# Altium schematic symbol library SparkFun-Resistors.SCHLIB: 220 symbols (part 2 of 3)
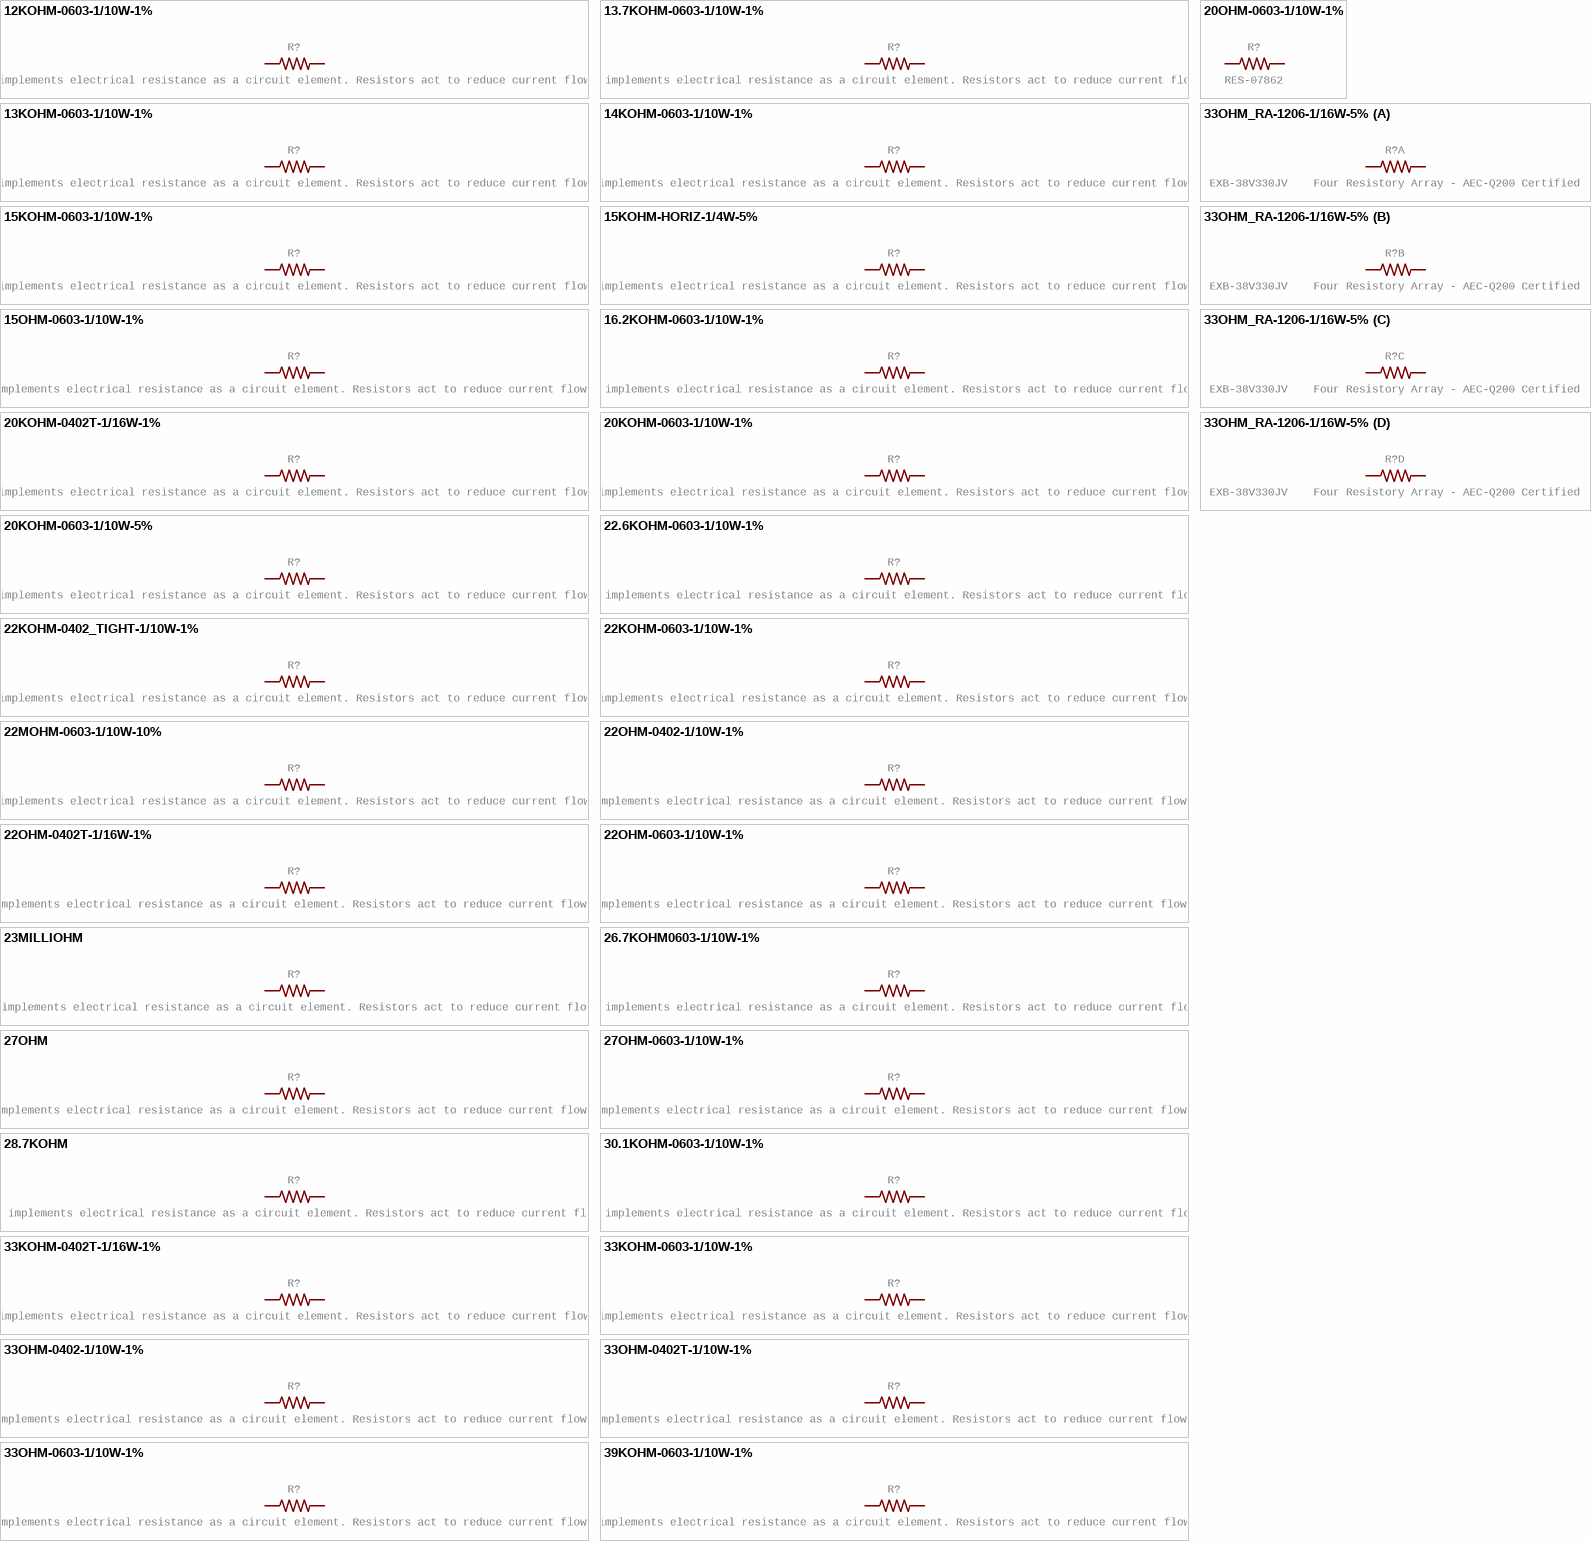
[diagram p8: symbols 12KOHM-0603-1/10W-1% to 39KOHM-0603-1/10W-1%]

## 20KOHM-0603-1/10W-1%
designator R?, comment 20kÎ© resistor    A resistor is a passive two-terminal electrical component that implements electrical resistance as a circuit element. Resistors act to reduce current flow, and, at the same time, act to lower voltage levels within circuits. - Wikipedia
GateName_1: G$1; DeviceName: -0603-1/10W-1%; DeviceSetName: 20KOHM; PROD_ID: RES-09383; SymbolName_1: RESISTOR; LibraryName: SparkFun-Resistors; Package: 0603
footprint 0603
pins: 1, 2

## 20KOHM-0603-1/10W-5%
designator R?, comment 20kÎ© resistor    A resistor is a passive two-terminal electrical component that implements electrical resistance as a circuit element. Resistors act to reduce current flow, and, at the same time, act to lower voltage levels within circuits. - Wikipedia
GateName_1: G$1; DeviceName: -0603-1/10W-5%; DeviceSetName: 20KOHM; PROD_ID: RES-09231; SymbolName_1: RESISTOR; LibraryName: SparkFun-Resistors; Package: 0603
footprint 0603
pins: 1, 2

## 20OHM-0603-1/10W-1%
designator R?, comment RES-07862
GateName_1: G$1; SymbolName_1: RESISTOR; DeviceName: -0603-1/10W-1%; DeviceSetName: 20OHM; LibraryName: SparkFun-Resistors; Package: 0603; PROD_ID: RES-07862
footprint 0603
pins: 1, 2

## 22.6KOHM-0603-1/10W-1%
designator R?, comment 22.6kÎ© resistor    A resistor is a passive two-terminal electrical component that implements electrical resistance as a circuit element. Resistors act to reduce current flow, and, at the same time, act to lower voltage levels within circuits. - Wikipedia
GateName_1: G$1; DeviceName: -0603-1/10W-1%; DeviceSetName: 22.6KOHM; PROD_ID: RES-09384; SymbolName_1: RESISTOR; LibraryName: SparkFun-Resistors; Package: 0603
footprint 0603
pins: 1, 2

## 22KOHM-0402_TIGHT-1/10W-1%
designator R?, comment 22kÎ© resistor    A resistor is a passive two-terminal electrical component that implements electrical resistance as a circuit element. Resistors act to reduce current flow, and, at the same time, act to lower voltage levels within circuits. - Wikipedia
GateName_1: G$1; DeviceName: -0402_TIGHT-1/10W-1%; DeviceSetName: 22KOHM; PROD_ID: RES-14281; SymbolName_1: RESISTOR; LibraryName: SparkFun-Resistors; Package: 0402-TIGHT
footprint 0402-TIGHT
pins: 1, 2

## 22KOHM-0603-1/10W-1%
designator R?, comment 22kÎ© resistor    A resistor is a passive two-terminal electrical component that implements electrical resistance as a circuit element. Resistors act to reduce current flow, and, at the same time, act to lower voltage levels within circuits. - Wikipedia
GateName_1: G$1; DeviceName: -0603-1/10W-1%; DeviceSetName: 22KOHM; PROD_ID: RES-07853; SymbolName_1: RESISTOR; LibraryName: SparkFun-Resistors; Package: 0603
footprint 0603
pins: 1, 2

## 22MOHM-0603-1/10W-10%
designator R?, comment 22MÎ© resistor    A resistor is a passive two-terminal electrical component that implements electrical resistance as a circuit element. Resistors act to reduce current flow, and, at the same time, act to lower voltage levels within circuits. - Wikipedia
GateName_1: G$1; DeviceName: -0603-1/10W-10%; DeviceSetName: 22MOHM; PROD_ID: RES-11132; SymbolName_1: RESISTOR; LibraryName: SparkFun-Resistors; Package: 0603
footprint 0603
pins: 1, 2

## 22OHM-0402-1/10W-1%
designator R?, comment 22Î© resistor    A resistor is a passive two-terminal electrical component that implements electrical resistance as a circuit element. Resistors act to reduce current flow, and, at the same time, act to lower voltage levels within circuits. - Wikipedia
GateName_1: G$1; DeviceName: -0402-1/10W-1%; DeviceSetName: 22OHM; PROD_ID: RES-12427; SymbolName_1: RESISTOR; LibraryName: SparkFun-Resistors; Package: 0402
footprint 0402
pins: 1, 2

## 22OHM-0402T-1/16W-1%
designator R?, comment 22Î© resistor    A resistor is a passive two-terminal electrical component that implements electrical resistance as a circuit element. Resistors act to reduce current flow, and, at the same time, act to lower voltage levels within circuits. - Wikipedia
GateName_1: G$1; DeviceName: -0402T-1/16W-1%; DeviceSetName: 22OHM; PROD_ID: RES-12427; SymbolName_1: RESISTOR; LibraryName: SparkFun-Resistors; Package: 0402-TIGHT
footprint 0402-TIGHT
pins: 1, 2

## 22OHM-0603-1/10W-1%
designator R?, comment 22Î© resistor    A resistor is a passive two-terminal electrical component that implements electrical resistance as a circuit element. Resistors act to reduce current flow, and, at the same time, act to lower voltage levels within circuits. - Wikipedia
GateName_1: G$1; DeviceName: -0603-1/10W-1%; DeviceSetName: 22OHM; PROD_ID: RES-08698; SymbolName_1: RESISTOR; LibraryName: SparkFun-Resistors; Package: 0603
footprint 0603
pins: 1, 2

## 23MILLIOHM
designator R?, comment 23 mÎ© resistor    A resistor is a passive two-terminal electrical component that implements electrical resistance as a circuit element. Resistors act to reduce current flow, and, at the same time, act to lower voltage levels within circuits. - Wikipedia
GateName_1: G$1; DeviceSetName: 23MILLIOHM; PROD_ID: RES-15813; SymbolName_1: RESISTOR; LibraryName: SparkFun-Resistors; Package: 2512
footprint 2512
pins: P$1 1, P$2 2

## 26.7KOHM0603-1/10W-1%
designator R?, comment 26.7kÎ© resistor    A resistor is a passive two-terminal electrical component that implements electrical resistance as a circuit element. Resistors act to reduce current flow, and, at the same time, act to lower voltage levels within circuits. - Wikipedia
GateName_1: G$1; DeviceName: 0603-1/10W-1%; DeviceSetName: 26.7KOHM; PROD_ID: RES-12186; SymbolName_1: RESISTOR; LibraryName: SparkFun-Resistors; Package: 0603
footprint 0603
pins: 1, 2

## 27OHM
designator R?, comment 27Î© resistor    A resistor is a passive two-terminal electrical component that implements electrical resistance as a circuit element. Resistors act to reduce current flow, and, at the same time, act to lower voltage levels within circuits. - Wikipedia
GateName_1: G$1; DeviceSetName: 27OHM; PROD_ID: RES-15238; SymbolName_1: RESISTOR; LibraryName: SparkFun-Resistors; Package: 0402-TIGHT
footprint 0402-TIGHT
pins: 1, 2

## 27OHM-0603-1/10W-1%
designator R?, comment 27Î© resistor    A resistor is a passive two-terminal electrical component that implements electrical resistance as a circuit element. Resistors act to reduce current flow, and, at the same time, act to lower voltage levels within circuits. - Wikipedia
GateName_1: G$1; DeviceName: -0603-1/10W-1%; DeviceSetName: 27OHM; PROD_ID: RES-09334; SymbolName_1: RESISTOR; LibraryName: SparkFun-Resistors; Package: 0603
footprint 0603
pins: 1, 2

## 28.7KOHM
designator R?, comment 28.7 kÎ© resistor    A resistor is a passive two-terminal electrical component that implements electrical resistance as a circuit element. Resistors act to reduce current flow, and, at the same time, act to lower voltage levels within circuits. - Wikipedia
GateName_1: G$1; DeviceSetName: 28.7KOHM; PROD_ID: RES-15817; SymbolName_1: RESISTOR; LibraryName: SparkFun-Resistors; Package: 0603
footprint 0603
pins: 1, 2

## 30.1KOHM-0603-1/10W-1%
designator R?, comment 30.1kÎ© resistor    A resistor is a passive two-terminal electrical component that implements electrical resistance as a circuit element. Resistors act to reduce current flow, and, at the same time, act to lower voltage levels within circuits. - Wikipedia
GateName_1: G$1; DeviceName: -0603-1/10W-1%; DeviceSetName: 30.1KOHM; PROD_ID: RES-14417; SymbolName_1: RESISTOR; LibraryName: SparkFun-Resistors; Package: 0603
footprint 0603
pins: 1, 2

## 33KOHM-0402T-1/16W-1%
designator R?, comment 33kÎ© resistor    A resistor is a passive two-terminal electrical component that implements electrical resistance as a circuit element. Resistors act to reduce current flow, and, at the same time, act to lower voltage levels within circuits. - Wikipedia
GateName_1: G$1; DeviceName: -0402T-1/16W-1%; DeviceSetName: 33KOHM; PROD_ID: RES-15128; SymbolName_1: RESISTOR; LibraryName: SparkFun-Resistors; Package: 0402-TIGHT
footprint 0402-TIGHT
pins: 1, 2

## 33KOHM-0603-1/10W-1%
designator R?, comment 33kÎ© resistor    A resistor is a passive two-terminal electrical component that implements electrical resistance as a circuit element. Resistors act to reduce current flow, and, at the same time, act to lower voltage levels within circuits. - Wikipedia
GateName_1: G$1; DeviceName: -0603-1/10W-1%; DeviceSetName: 33KOHM; PROD_ID: RES-08416; SymbolName_1: RESISTOR; LibraryName: SparkFun-Resistors; Package: 0603
footprint 0603
pins: 1, 2

## 33OHM-0402-1/10W-1%
designator R?, comment 33Î© resistor    A resistor is a passive two-terminal electrical component that implements electrical resistance as a circuit element. Resistors act to reduce current flow, and, at the same time, act to lower voltage levels within circuits. - Wikipedia
GateName_1: G$1; DeviceName: -0402-1/10W-1%; DeviceSetName: 33OHM; PROD_ID: RES-14883; SymbolName_1: RESISTOR; LibraryName: SparkFun-Resistors; Package: 0402
footprint 0402
pins: 1, 2

## 33OHM-0402T-1/10W-1%
designator R?, comment 33Î© resistor    A resistor is a passive two-terminal electrical component that implements electrical resistance as a circuit element. Resistors act to reduce current flow, and, at the same time, act to lower voltage levels within circuits. - Wikipedia
GateName_1: G$1; DeviceName: -0402T-1/10W-1%; DeviceSetName: 33OHM; PROD_ID: RES-14883; SymbolName_1: RESISTOR; LibraryName: SparkFun-Resistors; Package: 0402-TIGHT
footprint 0402-TIGHT
pins: 1, 2

## 33OHM-0603-1/10W-1%
designator R?, comment 33Î© resistor    A resistor is a passive two-terminal electrical component that implements electrical resistance as a circuit element. Resistors act to reduce current flow, and, at the same time, act to lower voltage levels within circuits. - Wikipedia
GateName_1: G$1; DeviceName: -0603-1/10W-1%; DeviceSetName: 33OHM; PROD_ID: RES-08270; SymbolName_1: RESISTOR; LibraryName: SparkFun-Resistors; Package: 0603
footprint 0603
pins: 1, 2

## 33OHM_RA-1206-1/16W-5%
designator R?, comment EXB-38V330JV    Four Resistory Array - AEC-Q200 Certified
GateName_1: A; GateName_2: B; GateName_3: C; GateName_4: D; DeviceName: -1206-1/16W-5%; DeviceSetName: 33OHM_RA; PROD_ID: RES-15081; SymbolName_1: RESISTOR; SymbolName_2: RESISTOR; SymbolName_3: RESISTOR; SymbolName_4: RESISTOR; LibraryName: SparkFun-Resistors; Package: 1206_RA
footprint 1206_RA
part A pins: P1 1, P8 2
part B pins: P2 1, P7 2
part C pins: P3 1, P6 2
part D pins: P4 1, P5 2

## 39KOHM-0603-1/10W-1%
designator R?, comment 39kÎ© resistor    A resistor is a passive two-terminal electrical component that implements electrical resistance as a circuit element. Resistors act to reduce current flow, and, at the same time, act to lower voltage levels within circuits. - Wikipedia
GateName_1: G$1; DeviceName: -0603-1/10W-1%; DeviceSetName: 39KOHM; PROD_ID: RES-12377; SymbolName_1: RESISTOR; LibraryName: SparkFun-Resistors; Package: 0603
footprint 0603
pins: 1, 2

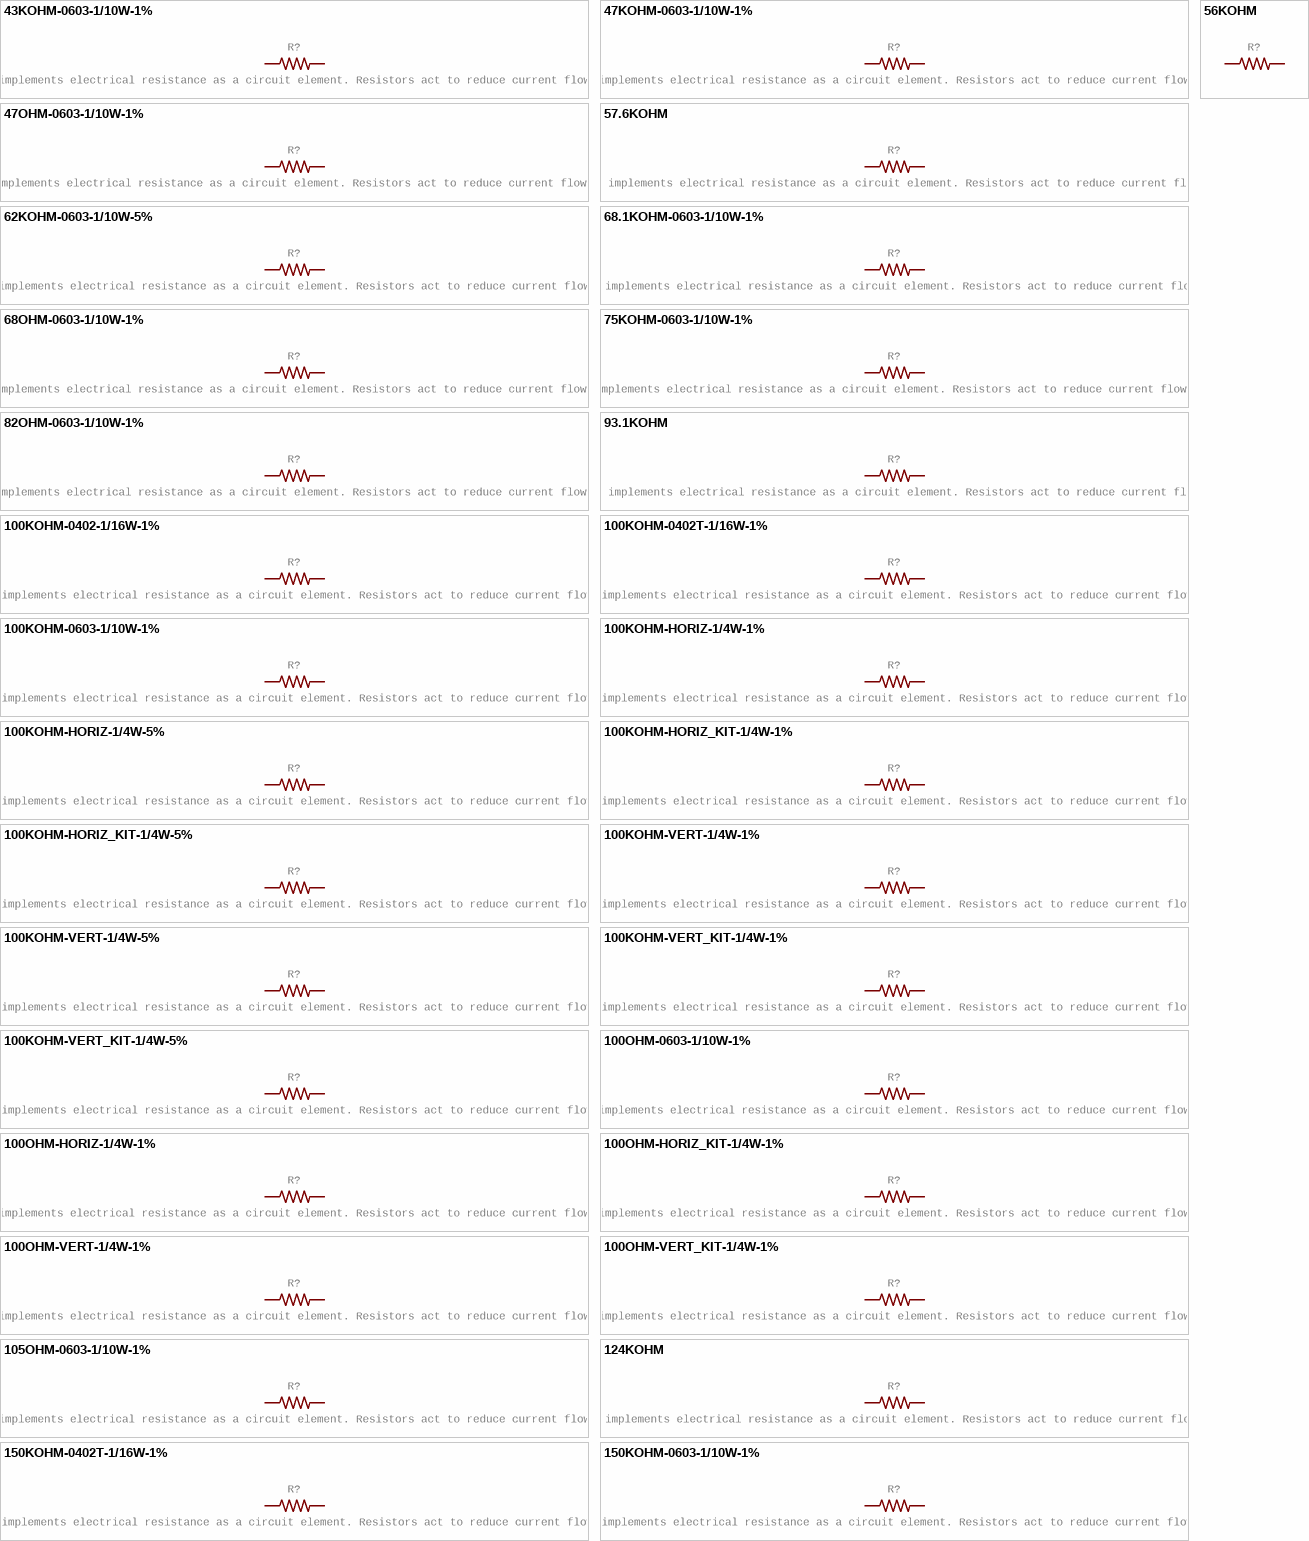
[diagram p4: symbols 43KOHM-0603-1/10W-1% to 150KOHM-0603-1/10W-1%]

## 43KOHM-0603-1/10W-1%
designator R?, comment 43kÎ© resistor    A resistor is a passive two-terminal electrical component that implements electrical resistance as a circuit element. Resistors act to reduce current flow, and, at the same time, act to lower voltage levels within circuits. - Wikipedia
GateName_1: G$1; DeviceName: -0603-1/10W-1%; DeviceSetName: 43KOHM; PROD_ID: RES-07858; SymbolName_1: RESISTOR; LibraryName: SparkFun-Resistors; Package: 0603
footprint 0603
pins: 1, 2

## 47KOHM-0603-1/10W-1%
designator R?, comment 47kÎ© resistor    A resistor is a passive two-terminal electrical component that implements electrical resistance as a circuit element. Resistors act to reduce current flow, and, at the same time, act to lower voltage levels within circuits. - Wikipedia
GateName_1: G$1; DeviceName: -0603-1/10W-1%; DeviceSetName: 47KOHM; PROD_ID: RES-07871; SymbolName_1: RESISTOR; LibraryName: SparkFun-Resistors; Package: 0603
footprint 0603
pins: 1, 2

## 47OHM-0603-1/10W-1%
designator R?, comment 47Î© resistor    A resistor is a passive two-terminal electrical component that implements electrical resistance as a circuit element. Resistors act to reduce current flow, and, at the same time, act to lower voltage levels within circuits. - Wikipedia
GateName_1: R1; DeviceName: -0603-1/10W-1%; DeviceSetName: 47OHM; PROD_ID: RES-14282; SymbolName_1: RESISTOR; LibraryName: SparkFun-Resistors; Package: 0603
footprint 0603
pins: 1, 2

## 56KOHM
designator R?
GateName_1: G$1; SymbolName_1: RESISTOR; DeviceSetName: 56KOHM; LibraryName: SparkFun-Resistors; Package: 0603
footprint 0603
pins: 1, 2

## 57.6KOHM
designator R?, comment 57.6 kÎ© resistor    A resistor is a passive two-terminal electrical component that implements electrical resistance as a circuit element. Resistors act to reduce current flow, and, at the same time, act to lower voltage levels within circuits. - Wikipedia
GateName_1: G$1; DeviceSetName: 57.6KOHM; PROD_ID: RES-15818; SymbolName_1: RESISTOR; LibraryName: SparkFun-Resistors; Package: 0603
footprint 0603
pins: 1, 2

## 62KOHM-0603-1/10W-5%
designator R?, comment 62kÎ© resistor    A resistor is a passive two-terminal electrical component that implements electrical resistance as a circuit element. Resistors act to reduce current flow, and, at the same time, act to lower voltage levels within circuits. - Wikipedia
GateName_1: G$1; DeviceName: -0603-1/10W-5%; DeviceSetName: 62KOHM; PROD_ID: RES-09993; SymbolName_1: RESISTOR; LibraryName: SparkFun-Resistors; Package: 0603
footprint 0603
pins: 1, 2

## 68.1KOHM-0603-1/10W-1%
designator R?, comment 68.1kÎ© resistor    A resistor is a passive two-terminal electrical component that implements electrical resistance as a circuit element. Resistors act to reduce current flow, and, at the same time, act to lower voltage levels within circuits. - Wikipedia
GateName_1: >NAME; DeviceName: -0603-1/10W-1%; DeviceSetName: 68.1KOHM; PROD_ID: RES-09380; SymbolName_1: RESISTOR; LibraryName: SparkFun-Resistors; Package: 0603
footprint 0603
pins: 1, 2

## 68OHM-0603-1/10W-1%
designator R?, comment 68Î© resistor    A resistor is a passive two-terminal electrical component that implements electrical resistance as a circuit element. Resistors act to reduce current flow, and, at the same time, act to lower voltage levels within circuits. - Wikipedia
GateName_1: G$1; DeviceName: -0603-1/10W-1%; DeviceSetName: 68OHM; SymbolName_1: RESISTOR; LibraryName: SparkFun-Resistors; Package: 0603
footprint 0603
pins: 1, 2

## 75KOHM-0603-1/10W-1%
designator R?, comment 75Î© resistor    A resistor is a passive two-terminal electrical component that implements electrical resistance as a circuit element. Resistors act to reduce current flow, and, at the same time, act to lower voltage levels within circuits. - Wikipedia
GateName_1: G$1; DeviceName: -0603-1/10W-1%; DeviceSetName: 75KOHM; PROD_ID: RES-09737; SymbolName_1: RESISTOR; LibraryName: SparkFun-Resistors; Package: 0603
footprint 0603
pins: 1, 2

## 82OHM-0603-1/10W-1%
designator R?, comment 82Î© resistor    A resistor is a passive two-terminal electrical component that implements electrical resistance as a circuit element. Resistors act to reduce current flow, and, at the same time, act to lower voltage levels within circuits. - Wikipedia
GateName_1: G$1; DeviceName: -0603-1/10W-1%; DeviceSetName: 82OHM; PROD_ID: RES-12311; SymbolName_1: RESISTOR; LibraryName: SparkFun-Resistors; Package: 0603
footprint 0603
pins: 1, 2

## 93.1KOHM
designator R?, comment 93.1kÎ© resistor     A resistor is a passive two-terminal electrical component that implements electrical resistance as a circuit element. Resistors act to reduce current flow, and, at the same time, act to lower voltage levels within circuits. - Wikipedia
GateName_1: G$1; DeviceSetName: 93.1KOHM; PROD_ID: RES-14393; SymbolName_1: RESISTOR; LibraryName: SparkFun-Resistors; Package: 0603
footprint 0603
pins: 1, 2

## 100KOHM-0402-1/16W-1%
designator R?, comment 100kÎ© resistor    A resistor is a passive two-terminal electrical component that implements electrical resistance as a circuit element. Resistors act to reduce current flow, and, at the same time, act to lower voltage levels within circuits. - Wikipedia
GateName_1: G$1; DeviceName: -0402-1/16W-1%; DeviceSetName: 100KOHM; PROD_ID: RES-13495; SymbolName_1: RESISTOR; LibraryName: SparkFun-Resistors; Package: 0402
footprint 0402
pins: 1, 2

## 100KOHM-0402T-1/16W-1%
designator R?, comment 100kÎ© resistor    A resistor is a passive two-terminal electrical component that implements electrical resistance as a circuit element. Resistors act to reduce current flow, and, at the same time, act to lower voltage levels within circuits. - Wikipedia
GateName_1: G$1; DeviceName: -0402T-1/16W-1%; DeviceSetName: 100KOHM; PROD_ID: RES-13495; SymbolName_1: RESISTOR; LibraryName: SparkFun-Resistors; Package: 0402-TIGHT
footprint 0402-TIGHT
pins: 1, 2

## 100KOHM-0603-1/10W-1%
designator R?, comment 100kÎ© resistor    A resistor is a passive two-terminal electrical component that implements electrical resistance as a circuit element. Resistors act to reduce current flow, and, at the same time, act to lower voltage levels within circuits. - Wikipedia
GateName_1: G$1; DeviceName: -0603-1/10W-1%; DeviceSetName: 100KOHM; PROD_ID: RES-07828; SymbolName_1: RESISTOR; LibraryName: SparkFun-Resistors; Package: 0603
footprint 0603
pins: 1, 2

## 100KOHM-HORIZ-1/4W-1%
designator R?, comment 100kÎ© resistor    A resistor is a passive two-terminal electrical component that implements electrical resistance as a circuit element. Resistors act to reduce current flow, and, at the same time, act to lower voltage levels within circuits. - Wikipedia
GateName_1: G$1; DeviceName: -HORIZ-1/4W-1%; DeviceSetName: 100KOHM; PROD_ID: RES-12184; SymbolName_1: RESISTOR; LibraryName: SparkFun-Resistors; Package: AXIAL-0.3
footprint AXIAL-0.3
pins: P$1 1, P$2 2

## 100KOHM-HORIZ-1/4W-5%
designator R?, comment 100kÎ© resistor    A resistor is a passive two-terminal electrical component that implements electrical resistance as a circuit element. Resistors act to reduce current flow, and, at the same time, act to lower voltage levels within circuits. - Wikipedia
GateName_1: G$1; DeviceName: -HORIZ-1/4W-5%; DeviceSetName: 100KOHM; PROD_ID: RES-10686; SymbolName_1: RESISTOR; LibraryName: SparkFun-Resistors; Package: AXIAL-0.3
footprint AXIAL-0.3
pins: P$1 1, P$2 2

## 100KOHM-HORIZ_KIT-1/4W-1%
designator R?, comment 100kÎ© resistor    A resistor is a passive two-terminal electrical component that implements electrical resistance as a circuit element. Resistors act to reduce current flow, and, at the same time, act to lower voltage levels within circuits. - Wikipedia
GateName_1: G$1; DeviceName: -HORIZ_KIT-1/4W-1%; DeviceSetName: 100KOHM; PROD_ID: RES-12184; SymbolName_1: RESISTOR; LibraryName: SparkFun-Resistors; Package: AXIAL-0.3-KIT
footprint AXIAL-0.3-KIT
pins: P$1 1, P$2 2

## 100KOHM-HORIZ_KIT-1/4W-5%
designator R?, comment 100kÎ© resistor    A resistor is a passive two-terminal electrical component that implements electrical resistance as a circuit element. Resistors act to reduce current flow, and, at the same time, act to lower voltage levels within circuits. - Wikipedia
GateName_1: G$1; DeviceName: -HORIZ_KIT-1/4W-5%; DeviceSetName: 100KOHM; PROD_ID: RES-10686; SymbolName_1: RESISTOR; LibraryName: SparkFun-Resistors; Package: AXIAL-0.3-KIT
footprint AXIAL-0.3-KIT
pins: P$1 1, P$2 2

## 100KOHM-VERT-1/4W-1%
designator R?, comment 100kÎ© resistor    A resistor is a passive two-terminal electrical component that implements electrical resistance as a circuit element. Resistors act to reduce current flow, and, at the same time, act to lower voltage levels within circuits. - Wikipedia
GateName_1: G$1; DeviceName: -VERT-1/4W-1%; DeviceSetName: 100KOHM; PROD_ID: RES-12184; SymbolName_1: RESISTOR; LibraryName: SparkFun-Resistors; Package: AXIAL-0.1
footprint AXIAL-0.1
pins: P$1 1, P$2 2

## 100KOHM-VERT-1/4W-5%
designator R?, comment 100kÎ© resistor    A resistor is a passive two-terminal electrical component that implements electrical resistance as a circuit element. Resistors act to reduce current flow, and, at the same time, act to lower voltage levels within circuits. - Wikipedia
GateName_1: G$1; DeviceName: -VERT-1/4W-5%; DeviceSetName: 100KOHM; PROD_ID: RES-10686; SymbolName_1: RESISTOR; LibraryName: SparkFun-Resistors; Package: AXIAL-0.1
footprint AXIAL-0.1
pins: P$1 1, P$2 2

## 100KOHM-VERT_KIT-1/4W-1%
designator R?, comment 100kÎ© resistor    A resistor is a passive two-terminal electrical component that implements electrical resistance as a circuit element. Resistors act to reduce current flow, and, at the same time, act to lower voltage levels within circuits. - Wikipedia
GateName_1: G$1; DeviceName: -VERT_KIT-1/4W-1%; DeviceSetName: 100KOHM; PROD_ID: RES-12184; SymbolName_1: RESISTOR; LibraryName: SparkFun-Resistors; Package: AXIAL-0.1-KIT
footprint AXIAL-0.1-KIT
pins: P$1 1, P$2 2

## 100KOHM-VERT_KIT-1/4W-5%
designator R?, comment 100kÎ© resistor    A resistor is a passive two-terminal electrical component that implements electrical resistance as a circuit element. Resistors act to reduce current flow, and, at the same time, act to lower voltage levels within circuits. - Wikipedia
GateName_1: G$1; DeviceName: -VERT_KIT-1/4W-5%; DeviceSetName: 100KOHM; PROD_ID: RES-10686; SymbolName_1: RESISTOR; LibraryName: SparkFun-Resistors; Package: AXIAL-0.1-KIT
footprint AXIAL-0.1-KIT
pins: P$1 1, P$2 2

## 100OHM-0603-1/10W-1%
designator R?, comment 100Î© resistor    A resistor is a passive two-terminal electrical component that implements electrical resistance as a circuit element. Resistors act to reduce current flow, and, at the same time, act to lower voltage levels within circuits. - Wikipedia
GateName_1: G$1; DeviceName: -0603-1/10W-1%; DeviceSetName: 100OHM; PROD_ID: RES-07863; SymbolName_1: RESISTOR; LibraryName: SparkFun-Resistors; Package: 0603
footprint 0603
pins: 1, 2

## 100OHM-HORIZ-1/4W-1%
designator R?, comment 100Î© resistor    A resistor is a passive two-terminal electrical component that implements electrical resistance as a circuit element. Resistors act to reduce current flow, and, at the same time, act to lower voltage levels within circuits. - Wikipedia
GateName_1: G$1; DeviceName: -HORIZ-1/4W-1%; DeviceSetName: 100OHM; PROD_ID: RES-12181; SymbolName_1: RESISTOR; LibraryName: SparkFun-Resistors; Package: AXIAL-0.3
footprint AXIAL-0.3
pins: P$1 1, P$2 2

## 100OHM-HORIZ_KIT-1/4W-1%
designator R?, comment 100Î© resistor    A resistor is a passive two-terminal electrical component that implements electrical resistance as a circuit element. Resistors act to reduce current flow, and, at the same time, act to lower voltage levels within circuits. - Wikipedia
GateName_1: G$1; DeviceName: -HORIZ_KIT-1/4W-1%; DeviceSetName: 100OHM; PROD_ID: RES-12181; SymbolName_1: RESISTOR; LibraryName: SparkFun-Resistors; Package: AXIAL-0.3EZ
footprint AXIAL-0.3EZ
pins: P$1 1, P$2 2

## 100OHM-VERT-1/4W-1%
designator R?, comment 100Î© resistor    A resistor is a passive two-terminal electrical component that implements electrical resistance as a circuit element. Resistors act to reduce current flow, and, at the same time, act to lower voltage levels within circuits. - Wikipedia
GateName_1: G$1; DeviceName: -VERT-1/4W-1%; DeviceSetName: 100OHM; PROD_ID: RES-12181; SymbolName_1: RESISTOR; LibraryName: SparkFun-Resistors; Package: AXIAL-0.1
footprint AXIAL-0.1
pins: P$1 1, P$2 2

## 100OHM-VERT_KIT-1/4W-1%
designator R?, comment 100Î© resistor    A resistor is a passive two-terminal electrical component that implements electrical resistance as a circuit element. Resistors act to reduce current flow, and, at the same time, act to lower voltage levels within circuits. - Wikipedia
GateName_1: G$1; DeviceName: -VERT_KIT-1/4W-1%; DeviceSetName: 100OHM; PROD_ID: RES-12181; SymbolName_1: RESISTOR; LibraryName: SparkFun-Resistors; Package: AXIAL-0.1-KIT
footprint AXIAL-0.1-KIT
pins: P$1 1, P$2 2

## 105OHM-0603-1/10W-1%
designator R?, comment 105Î© resistor    A resistor is a passive two-terminal electrical component that implements electrical resistance as a circuit element. Resistors act to reduce current flow, and, at the same time, act to lower voltage levels within circuits. - Wikipedia
GateName_1: G$1; DeviceName: -0603-1/10W-1%; DeviceSetName: 105OHM; PROD_ID: RES-10751; SymbolName_1: RESISTOR; LibraryName: SparkFun-Resistors; Package: 0603
footprint 0603
pins: 1, 2

## 124KOHM
designator R?, comment 124kÎ© resistor     A resistor is a passive two-terminal electrical component that implements electrical resistance as a circuit element. Resistors act to reduce current flow, and, at the same time, act to lower voltage levels within circuits. - Wikipedia
GateName_1: G$1; DeviceSetName: 124KOHM; PROD_ID: RES-14395; SymbolName_1: RESISTOR; LibraryName: SparkFun-Resistors; Package: 0603
footprint 0603
pins: 1, 2

## 150KOHM-0402T-1/16W-1%
designator R?, comment 150kÎ© resistor    A resistor is a passive two-terminal electrical component that implements electrical resistance as a circuit element. Resistors act to reduce current flow, and, at the same time, act to lower voltage levels within circuits. - Wikipedia
GateName_1: G$1; DeviceName: -0402T-1/16W-1%; DeviceSetName: 150KOHM; PROD_ID: RES-15093; SymbolName_1: RESISTOR; LibraryName: SparkFun-Resistors; Package: 0402-TIGHT
footprint 0402-TIGHT
pins: 1, 2

## 150KOHM-0603-1/10W-1%
designator R?, comment 150kÎ© resistor    A resistor is a passive two-terminal electrical component that implements electrical resistance as a circuit element. Resistors act to reduce current flow, and, at the same time, act to lower voltage levels within circuits. - Wikipedia
GateName_1: G$1; DeviceName: -0603-1/10W-1%; DeviceSetName: 150KOHM; PROD_ID: RES-09117; SymbolName_1: RESISTOR; LibraryName: SparkFun-Resistors; Package: 0603
footprint 0603
pins: 1, 2

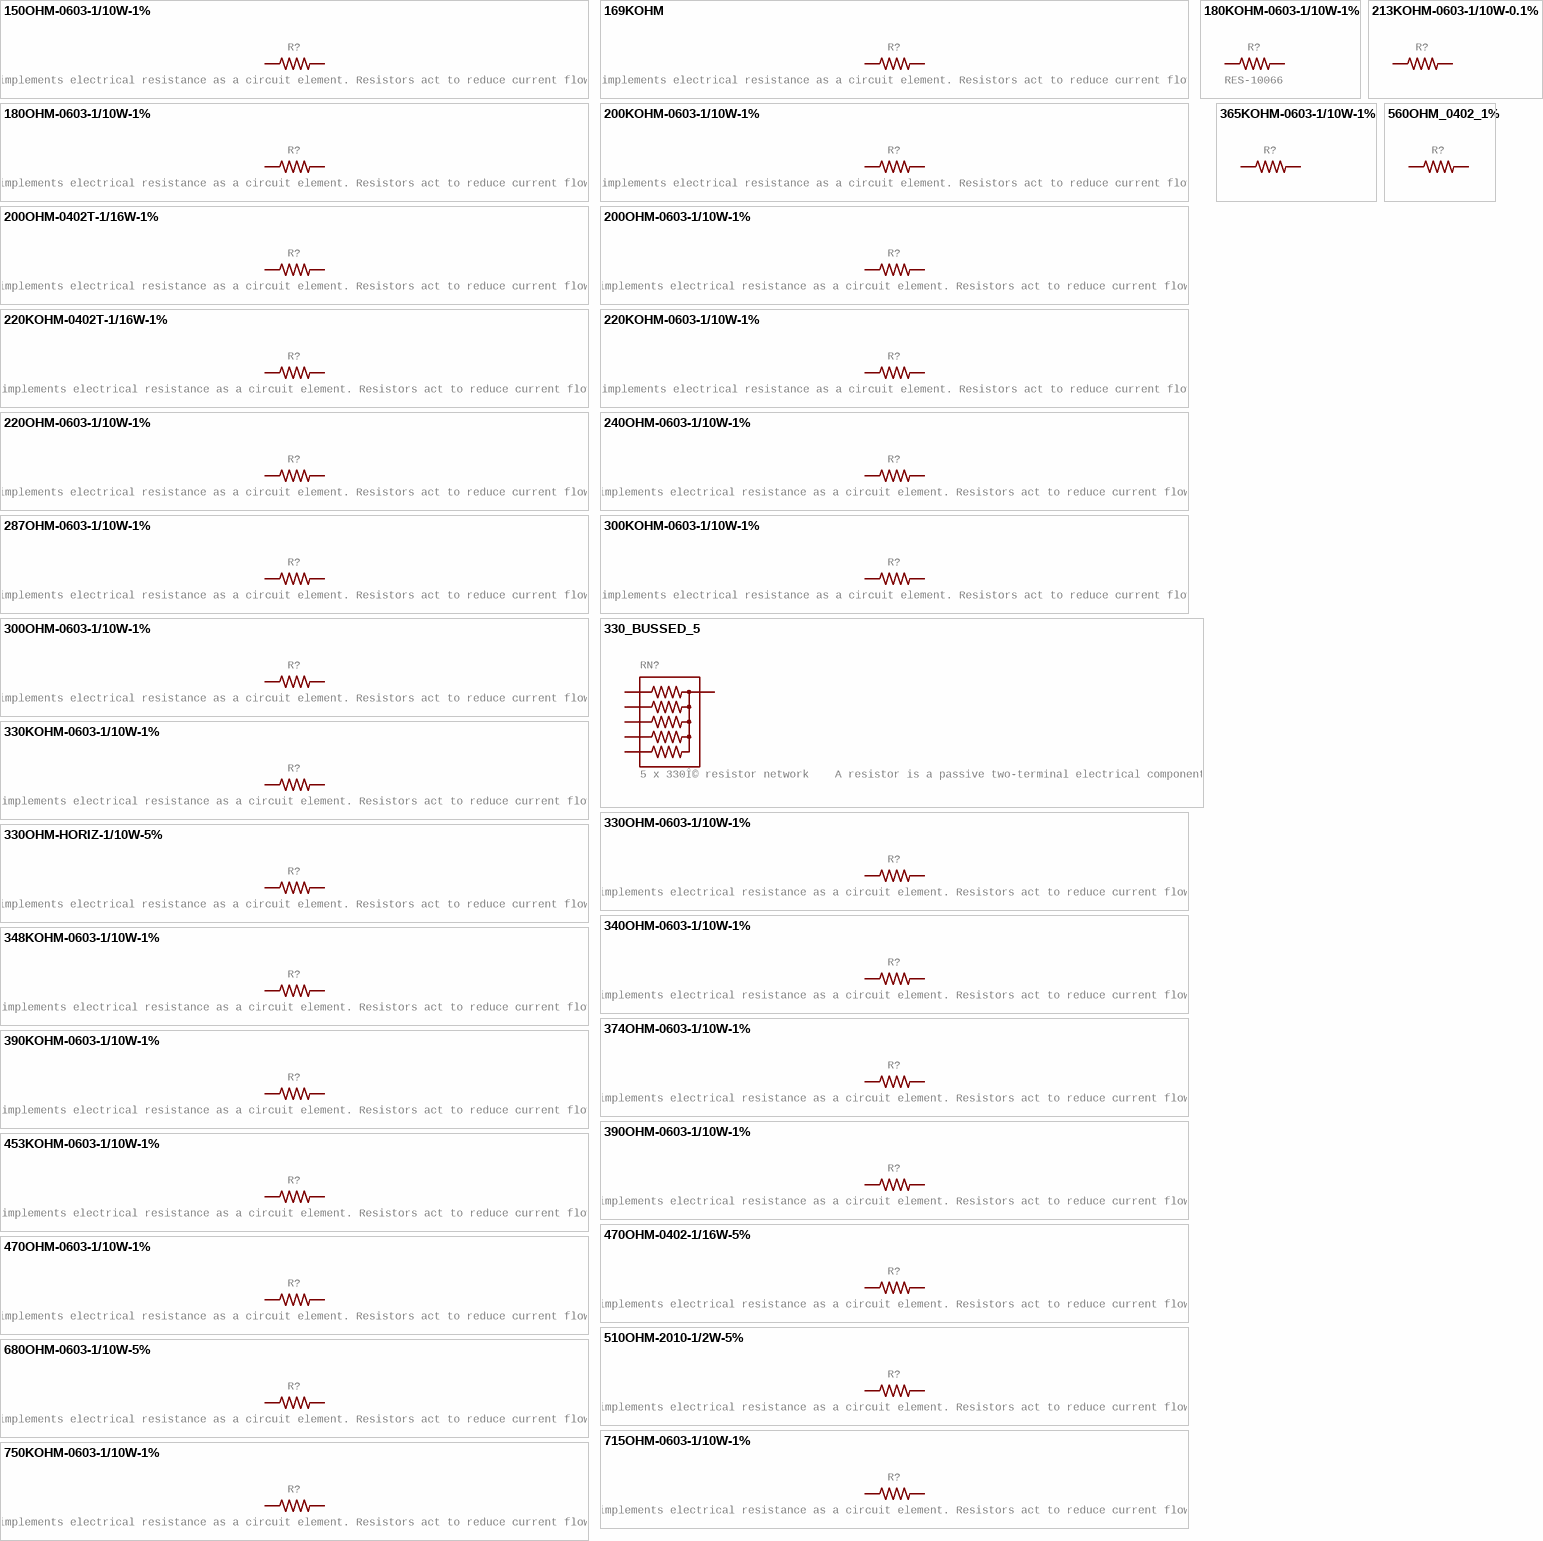
[diagram p5: symbols 150OHM-0603-1/10W-1% to 750KOHM-0603-1/10W-1%]

## 150OHM-0603-1/10W-1%
designator R?, comment 150Î© resistor    A resistor is a passive two-terminal electrical component that implements electrical resistance as a circuit element. Resistors act to reduce current flow, and, at the same time, act to lower voltage levels within circuits. - Wikipedia
GateName_1: G$1; DeviceName: -0603-1/10W-1%; DeviceSetName: 150OHM; PROD_ID: RES-11028; SymbolName_1: RESISTOR; LibraryName: SparkFun-Resistors; Package: 0603
footprint 0603
pins: 1, 2

## 169KOHM
designator R?, comment 169kÎ© resistor    A resistor is a passive two-terminal electrical component that implements electrical resistance as a circuit element. Resistors act to reduce current flow, and, at the same time, act to lower voltage levels within circuits. - Wikipedia
GateName_1: G$1; DeviceSetName: 169KOHM; PROD_ID: RES-14394; SymbolName_1: RESISTOR; LibraryName: SparkFun-Resistors; Package: 0603
footprint 0603
pins: 1, 2

## 180KOHM-0603-1/10W-1%
designator R?, comment RES-10066
GateName_1: G$1; SymbolName_1: RESISTOR; DeviceName: -0603-1/10W-1%; DeviceSetName: 180KOHM; LibraryName: SparkFun-Resistors; Package: 0603; PROD_ID: RES-10066
footprint 0603
pins: 1, 2

## 180OHM-0603-1/10W-1%
designator R?, comment 180Î© resistor    A resistor is a passive two-terminal electrical component that implements electrical resistance as a circuit element. Resistors act to reduce current flow, and, at the same time, act to lower voltage levels within circuits. - Wikipedia
GateName_1: G$1; DeviceName: -0603-1/10W-1%; DeviceSetName: 180OHM; PROD_ID: RES-08788; SymbolName_1: RESISTOR; LibraryName: SparkFun-Resistors; Package: 0603
footprint 0603
pins: 1, 2

## 200KOHM-0603-1/10W-1%
designator R?, comment 200kÎ© resistor    A resistor is a passive two-terminal electrical component that implements electrical resistance as a circuit element. Resistors act to reduce current flow, and, at the same time, act to lower voltage levels within circuits. - Wikipedia
GateName_1: G$1; DeviceName: -0603-1/10W-1%; DeviceSetName: 200KOHM; PROD_ID: RES-09385; SymbolName_1: RESISTOR; LibraryName: SparkFun-Resistors; Package: 0603
footprint 0603
pins: 1, 2

## 200OHM-0402T-1/16W-1%
designator R?, comment 200Î© resistor    A resistor is a passive two-terminal electrical component that implements electrical resistance as a circuit element. Resistors act to reduce current flow, and, at the same time, act to lower voltage levels within circuits. - Wikipedia
GateName_1: G$1; DeviceName: -0402T-1/16W-1%; DeviceSetName: 200OHM; PROD_ID: RES-15550; SymbolName_1: RESISTOR; LibraryName: SparkFun-Resistors; Package: 0402-TIGHT
footprint 0402-TIGHT
pins: 1, 2

## 200OHM-0603-1/10W-1%
designator R?, comment 200Î© resistor    A resistor is a passive two-terminal electrical component that implements electrical resistance as a circuit element. Resistors act to reduce current flow, and, at the same time, act to lower voltage levels within circuits. - Wikipedia
GateName_1: G$1; DeviceName: -0603-1/10W-1%; DeviceSetName: 200OHM; PROD_ID: RES-08220; SymbolName_1: RESISTOR; LibraryName: SparkFun-Resistors; Package: 0603
footprint 0603
pins: 1, 2

## 213KOHM-0603-1/10W-0.1%
designator R?
GateName_1: G$1; SymbolName_1: RESISTOR; DeviceName: -0603-1/10W-0.1%; DeviceSetName: 213KOHM; PROD_ID: RES-14261; LibraryName: SparkFun-Resistors; Package: 0603
footprint 0603
pins: 1, 2

## 220KOHM-0402T-1/16W-1%
designator R?, comment 220kÎ© resistor    A resistor is a passive two-terminal electrical component that implements electrical resistance as a circuit element. Resistors act to reduce current flow, and, at the same time, act to lower voltage levels within circuits. - Wikipedia
GateName_1: G$1; DeviceName: -0402T-1/16W-1%; DeviceSetName: 220KOHM; PROD_ID: RES-15094; SymbolName_1: RESISTOR; LibraryName: SparkFun-Resistors; Package: 0402-TIGHT
footprint 0402-TIGHT
pins: 1, 2

## 220KOHM-0603-1/10W-1%
designator R?, comment 220kÎ© resistor    A resistor is a passive two-terminal electrical component that implements electrical resistance as a circuit element. Resistors act to reduce current flow, and, at the same time, act to lower voltage levels within circuits. - Wikipedia
GateName_1: G$1; DeviceName: -0603-1/10W-1%; DeviceSetName: 220KOHM; PROD_ID: RES-08969; SymbolName_1: RESISTOR; LibraryName: SparkFun-Resistors; Package: 0603
footprint 0603
pins: 1, 2

## 220OHM-0603-1/10W-1%
designator R?, comment 220Î© resistor    A resistor is a passive two-terminal electrical component that implements electrical resistance as a circuit element. Resistors act to reduce current flow, and, at the same time, act to lower voltage levels within circuits. - Wikipedia
GateName_1: G$1; DeviceName: -0603-1/10W-1%; DeviceSetName: 220OHM; PROD_ID: RES-07861; SymbolName_1: RESISTOR; LibraryName: SparkFun-Resistors; Package: 0603
footprint 0603
pins: 1, 2

## 240OHM-0603-1/10W-1%
designator R?, comment 240Î© resistor    A resistor is a passive two-terminal electrical component that implements electrical resistance as a circuit element. Resistors act to reduce current flow, and, at the same time, act to lower voltage levels within circuits. - Wikipedia
GateName_1: G$1; DeviceName: -0603-1/10W-1%; DeviceSetName: 240OHM; PROD_ID: RES-07849; SymbolName_1: RESISTOR; LibraryName: SparkFun-Resistors; Package: 0603
footprint 0603
pins: 1, 2

## 287OHM-0603-1/10W-1%
designator R?, comment 287Î© resistor    A resistor is a passive two-terminal electrical component that implements electrical resistance as a circuit element. Resistors act to reduce current flow, and, at the same time, act to lower voltage levels within circuits. - Wikipedia
GateName_1: G$1; DeviceName: -0603-1/10W-1%; DeviceSetName: 287OHM; PROD_ID: RES-10752; SymbolName_1: RESISTOR; LibraryName: SparkFun-Resistors; Package: 0603
footprint 0603
pins: 1, 2

## 300KOHM-0603-1/10W-1%
designator R?, comment 300kÎ© resistor    A resistor is a passive two-terminal electrical component that implements electrical resistance as a circuit element. Resistors act to reduce current flow, and, at the same time, act to lower voltage levels within circuits. - Wikipedia
GateName_1: G$1; DeviceName: -0603-1/10W-1%; DeviceSetName: 300KOHM; PROD_ID: RES-10809; SymbolName_1: RESISTOR; LibraryName: SparkFun-Resistors; Package: 0603
footprint 0603
pins: 1, 2

## 300OHM-0603-1/10W-1%
designator R?, comment 300Î© resistor    A resistor is a passive two-terminal electrical component that implements electrical resistance as a circuit element. Resistors act to reduce current flow, and, at the same time, act to lower voltage levels within circuits. - Wikipedia
GateName_1: G$1; DeviceName: -0603-1/10W-1%; DeviceSetName: 300OHM; PROD_ID: RES-10328; SymbolName_1: RESISTOR; LibraryName: SparkFun-Resistors; Package: 0603
footprint 0603
pins: 1, 2

## 330_BUSSED_5
designator RN?, comment 5 x 330Î© resistor network    A resistor is a passive two-terminal electrical component that implements electrical resistance as a circuit element. Resistors act to reduce current flow, and, at the same time, act to lower voltage levels within circuits. - Wikipedia   This is a bussed or ladder network.
GateName_1: G$1; SymbolName_1: RPACK-BUSSED-5; DeviceSetName: 330_BUSSED_5; SF_SKU: COM-10856; LibraryName: SparkFun-Resistors; Package: RPACK-SIP-PTH-5
footprint RPACK-SIP-PTH-5
pins: P$1 1, P$2 2, P$3 3, P$4 4, P$5 5, P$6 6

## 330KOHM-0603-1/10W-1%
designator R?, comment 330kÎ© resistor    A resistor is a passive two-terminal electrical component that implements electrical resistance as a circuit element. Resistors act to reduce current flow, and, at the same time, act to lower voltage levels within circuits. - Wikipedia
GateName_1: G$1; DeviceName: -0603-1/10W-1%; DeviceSetName: 330KOHM; PROD_ID: RES-08968; SymbolName_1: RESISTOR; LibraryName: SparkFun-Resistors; Package: 0603
footprint 0603
pins: 1, 2

## 330OHM-0603-1/10W-1%
designator R?, comment 330Î© resistor    A resistor is a passive two-terminal electrical component that implements electrical resistance as a circuit element. Resistors act to reduce current flow, and, at the same time, act to lower voltage levels within circuits. - Wikipedia
GateName_1: G$1; DeviceName: -0603-1/10W-1%; DeviceSetName: 330OHM; PROD_ID: RES-00818; SymbolName_1: RESISTOR; LibraryName: SparkFun-Resistors; Package: 0603
footprint 0603
pins: 1, 2

## 330OHM-HORIZ-1/10W-5%
designator R?, comment 330Î© resistor    A resistor is a passive two-terminal electrical component that implements electrical resistance as a circuit element. Resistors act to reduce current flow, and, at the same time, act to lower voltage levels within circuits. - Wikipedia
GateName_1: G$1; DeviceName: -HORIZ-1/10W-5%; DeviceSetName: 330OHM; SymbolName_1: RESISTOR; LibraryName: SparkFun-Resistors; Package: AXIAL-0.3; PROD_ID: RES-8371
footprint AXIAL-0.3
pins: P$1 1, P$2 2

## 340OHM-0603-1/10W-1%
designator R?, comment 340Î© resistor    A resistor is a passive two-terminal electrical component that implements electrical resistance as a circuit element. Resistors act to reduce current flow, and, at the same time, act to lower voltage levels within circuits. - Wikipedia
GateName_1: G$1; DeviceName: -0603-1/10W-1%; DeviceSetName: 340OHM; PROD_ID: RES-12616; SymbolName_1: RESISTOR; LibraryName: SparkFun-Resistors; Package: 0603
footprint 0603
pins: 1, 2

## 348KOHM-0603-1/10W-1%
designator R?, comment 348kÎ© resistor    A resistor is a passive two-terminal electrical component that implements electrical resistance as a circuit element. Resistors act to reduce current flow, and, at the same time, act to lower voltage levels within circuits. - Wikipedia
GateName_1: G$1; DeviceName: -0603-1/10W-1%; DeviceSetName: 348KOHM; PROD_ID: RES-12533; SymbolName_1: RESISTOR; LibraryName: SparkFun-Resistors; Package: 0603
footprint 0603
pins: 1, 2

## 365KOHM-0603-1/10W-1%
designator R?
GateName_1: G$1; SymbolName_1: RESISTOR; DeviceName: -0603-1/10W-1%; DeviceSetName: 365KOHM; PROD_ID: RES-14262; LibraryName: SparkFun-Resistors; Package: 0603
footprint 0603
pins: 1, 2

## 374OHM-0603-1/10W-1%
designator R?, comment 374Î© resistor    A resistor is a passive two-terminal electrical component that implements electrical resistance as a circuit element. Resistors act to reduce current flow, and, at the same time, act to lower voltage levels within circuits. - Wikipedia
GateName_1: G$1; DeviceName: -0603-1/10W-1%; DeviceSetName: 374OHM; PROD_ID: RES-09992; SymbolName_1: RESISTOR; LibraryName: SparkFun-Resistors; Package: 0603
footprint 0603
pins: 1, 2

## 390KOHM-0603-1/10W-1%
designator R?, comment 390kÎ© resistor    A resistor is a passive two-terminal electrical component that implements electrical resistance as a circuit element. Resistors act to reduce current flow, and, at the same time, act to lower voltage levels within circuits. - Wikipedia
GateName_1: G$1; DeviceName: -0603-1/10W-1%; DeviceSetName: 390KOHM; PROD_ID: RES-12024; SymbolName_1: RESISTOR; LibraryName: SparkFun-Resistors; Package: 0603
footprint 0603
pins: 1, 2

## 390OHM-0603-1/10W-1%
designator R?, comment 390Î© resistor    A resistor is a passive two-terminal electrical component that implements electrical resistance as a circuit element. Resistors act to reduce current flow, and, at the same time, act to lower voltage levels within circuits. - Wikipedia
GateName_1: G$1; DeviceName: -0603-1/10W-1%; DeviceSetName: 390OHM; PROD_ID: RES-07864; SymbolName_1: RESISTOR; LibraryName: SparkFun-Resistors; Package: 0603
footprint 0603
pins: 1, 2

## 453KOHM-0603-1/10W-1%
designator R?, comment 3.9kÎ© resistor    A resistor is a passive two-terminal electrical component that implements electrical resistance as a circuit element. Resistors act to reduce current flow, and, at the same time, act to lower voltage levels within circuits. - Wikipedia
GateName_1: G$1; DeviceName: -0603-1/10W-1%; DeviceSetName: 453KOHM; PROD_ID: RES-14466; SymbolName_1: RESISTOR; LibraryName: SparkFun-Resistors; Package: 0603
footprint 0603
pins: 1, 2

## 470OHM-0402-1/16W-5%
designator R?, comment 470Î© resistor    A resistor is a passive two-terminal electrical component that implements electrical resistance as a circuit element. Resistors act to reduce current flow, and, at the same time, act to lower voltage levels within circuits. - Wikipedia
GateName_1: G$1; DeviceName: -0402-1/16W-5%; DeviceSetName: 470OHM; PROD_ID: RES-13829; SymbolName_1: RESISTOR; LibraryName: SparkFun-Resistors; Package: 0402
footprint 0402
pins: 1, 2

## 470OHM-0603-1/10W-1%
designator R?, comment 470Î© resistor    A resistor is a passive two-terminal electrical component that implements electrical resistance as a circuit element. Resistors act to reduce current flow, and, at the same time, act to lower voltage levels within circuits. - Wikipedia
GateName_1: G$1; DeviceName: -0603-1/10W-1%; DeviceSetName: 470OHM; PROD_ID: RES-07869; SymbolName_1: RESISTOR; LibraryName: SparkFun-Resistors; Package: 0603
footprint 0603
pins: 1, 2

## 510OHM-2010-1/2W-5%
designator R?, comment 510Î© resistor    A resistor is a passive two-terminal electrical component that implements electrical resistance as a circuit element. Resistors act to reduce current flow, and, at the same time, act to lower voltage levels within circuits. - Wikipedia
GateName_1: G$1; DeviceName: -2010-1/2W-5%; DeviceSetName: 510OHM; PROD_ID: RES-08717; SymbolName_1: RESISTOR; LibraryName: SparkFun-Resistors; Package: 2010
footprint 2010
pins: 1, 2

## 560OHM_0402_1%
designator R?
GateName_1: G$1; SymbolName_1: RESISTOR; DeviceName: _0402_1%; DeviceSetName: 560OHM; PROD_ID: RES-13766; LibraryName: SparkFun-Resistors; Package: 0402
footprint 0402
pins: 1, 2

## 680OHM-0603-1/10W-5%
designator R?, comment 680Î© resistor    A resistor is a passive two-terminal electrical component that implements electrical resistance as a circuit element. Resistors act to reduce current flow, and, at the same time, act to lower voltage levels within circuits. - Wikipedia
GateName_1: G$1; DeviceName: -0603-1/10W-5%; DeviceSetName: 680OHM; PROD_ID: RES-09333; SymbolName_1: RESISTOR; LibraryName: SparkFun-Resistors; Package: 0603
footprint 0603
pins: 1, 2

## 715OHM-0603-1/10W-1%
designator R?, comment 715Î© resistor    A resistor is a passive two-terminal electrical component that implements electrical resistance as a circuit element. Resistors act to reduce current flow, and, at the same time, act to lower voltage levels within circuits. - Wikipedia
GateName_1: G$1; DeviceName: -0603-1/10W-1%; DeviceSetName: 715OHM; PROD_ID: RES-07850; SymbolName_1: RESISTOR; LibraryName: SparkFun-Resistors; Package: 0603
footprint 0603
pins: 1, 2

## 750KOHM-0603-1/10W-1%
designator R?, comment 750Î© resistor    A resistor is a passive two-terminal electrical component that implements electrical resistance as a circuit element. Resistors act to reduce current flow, and, at the same time, act to lower voltage levels within circuits. - Wikipedia
GateName_1: G$1; DeviceName: -0603-1/10W-1%; DeviceSetName: 750KOHM; PROD_ID: RES-13768; SymbolName_1: RESISTOR; LibraryName: SparkFun-Resistors; Package: 0603
footprint 0603
pins: 1, 2

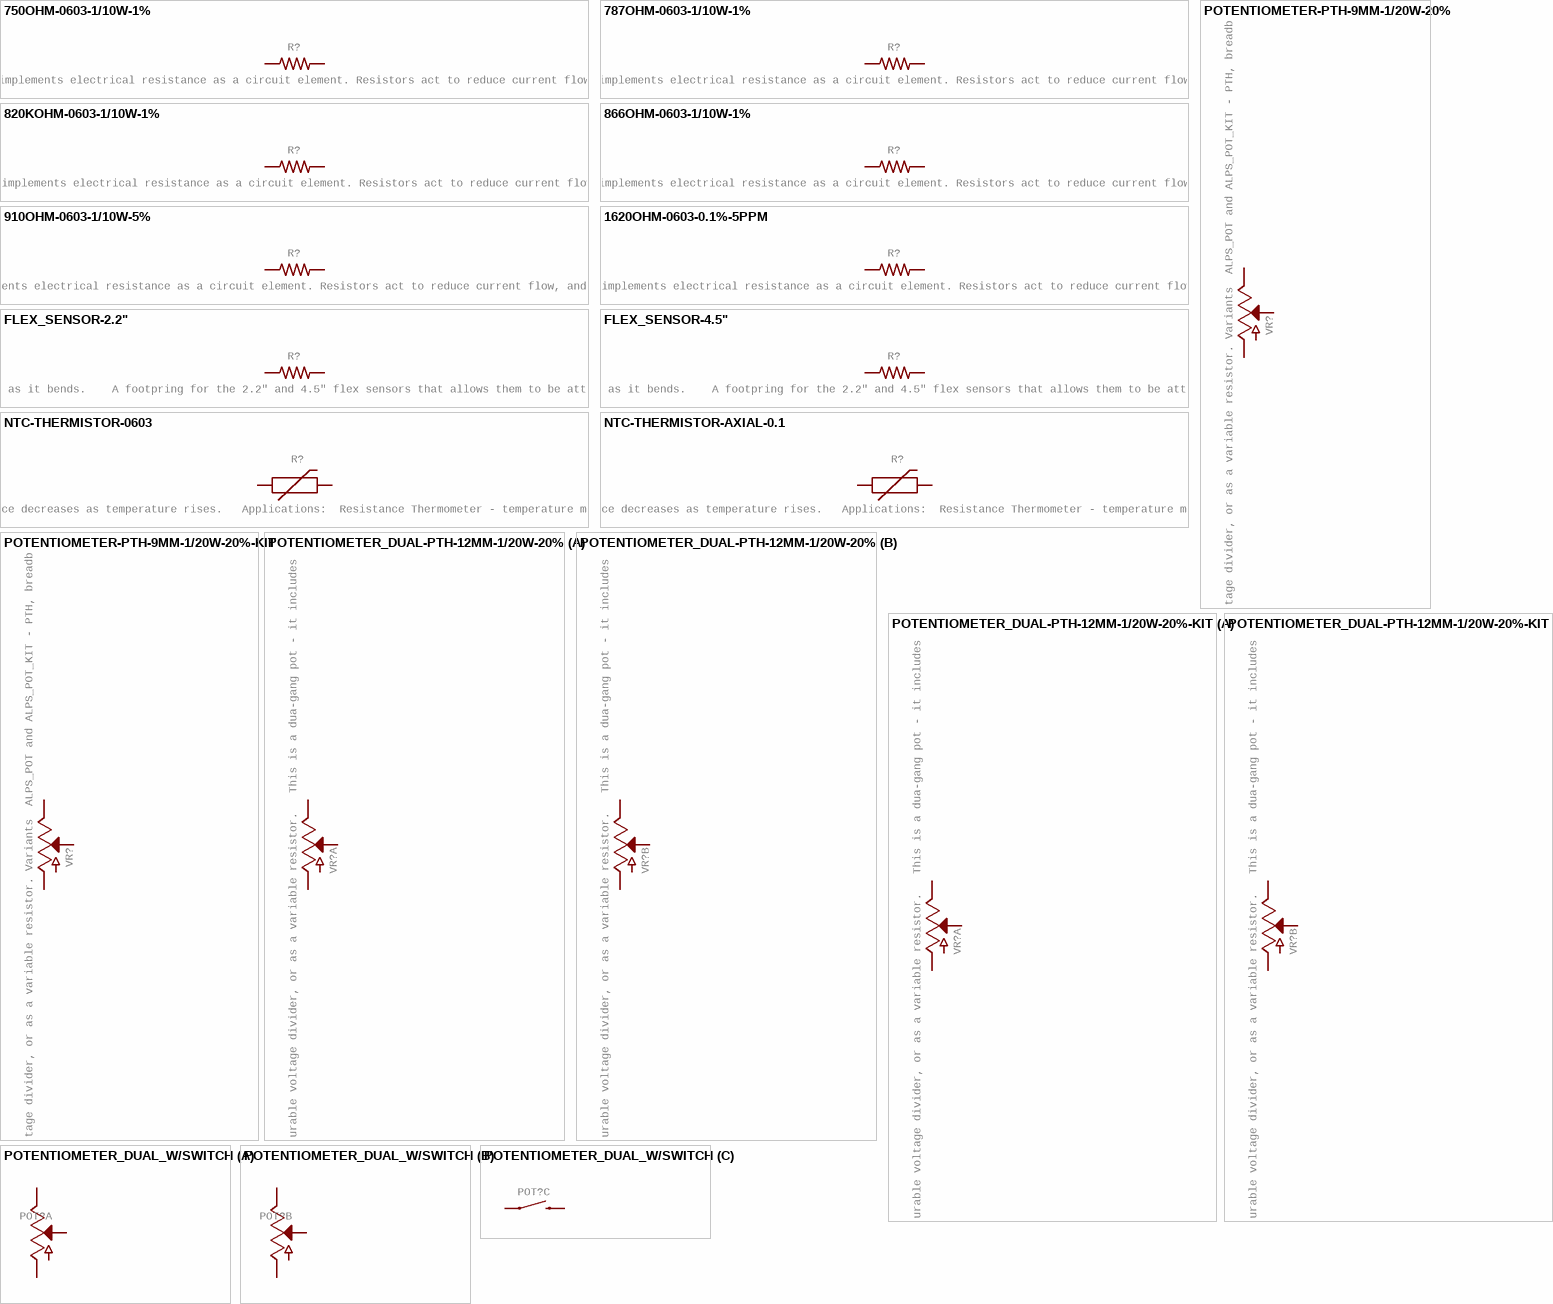
[diagram p6: symbols 750OHM-0603-1/10W-1% to POTENTIOMETER_DUAL_W/SWITCH]

## 750OHM-0603-1/10W-1%
designator R?, comment 750Î© resistor    A resistor is a passive two-terminal electrical component that implements electrical resistance as a circuit element. Resistors act to reduce current flow, and, at the same time, act to lower voltage levels within circuits. - Wikipedia
GateName_1: G$1; DeviceName: -0603-1/10W-1%; DeviceSetName: 750OHM; PROD_ID: RES-07824; SymbolName_1: RESISTOR; LibraryName: SparkFun-Resistors; Package: 0603
footprint 0603
pins: 1, 2

## 787OHM-0603-1/10W-1%
designator R?, comment 787Î© resistor    A resistor is a passive two-terminal electrical component that implements electrical resistance as a circuit element. Resistors act to reduce current flow, and, at the same time, act to lower voltage levels within circuits. - Wikipedia
GateName_1: G$1; DeviceName: -0603-1/10W-1%; DeviceSetName: 787OHM; PROD_ID: RES-11228; SymbolName_1: RESISTOR; LibraryName: SparkFun-Resistors; Package: 0603
footprint 0603
pins: 1, 2

## 820KOHM-0603-1/10W-1%
designator R?, comment 820kÎ© resistor    A resistor is a passive two-terminal electrical component that implements electrical resistance as a circuit element. Resistors act to reduce current flow, and, at the same time, act to lower voltage levels within circuits. - Wikipedia
GateName_1: G$1; DeviceName: -0603-1/10W-1%; DeviceSetName: 820KOHM; PROD_ID: RES-13247; SymbolName_1: RESISTOR; LibraryName: SparkFun-Resistors; Package: 0603
footprint 0603
pins: 1, 2

## 866OHM-0603-1/10W-1%
designator R?, comment 866Î© resistor    A resistor is a passive two-terminal electrical component that implements electrical resistance as a circuit element. Resistors act to reduce current flow, and, at the same time, act to lower voltage levels within circuits. - Wikipedia
GateName_1: G$1; DeviceName: -0603-1/10W-1%; DeviceSetName: 866OHM; PROD_ID: RES-09991; SymbolName_1: RESISTOR; LibraryName: SparkFun-Resistors; Package: 0603
footprint 0603
pins: 1, 2

## 910OHM-0603-1/10W-5%
designator R?, comment 910 Ohm Resistor    A resistor is a passive two-terminal electrical component that implements electrical resistance as a circuit element. Resistors act to reduce current flow, and, at the same time, act to lower voltage levels within circuits. - Wikipedia Digikey Link
GateName_1: G$1; DeviceName: -0603-1/10W-5%; DeviceSetName: 910OHM; PROD_ID: RES-13860; SymbolName_1: RESISTOR; LibraryName: SparkFun-Resistors; Package: 0603
footprint 0603
pins: 1, 2

## 1620OHM-0603-0.1%-5PPM
designator R?, comment 1620Î© resistor    A resistor is a passive two-terminal electrical component that implements electrical resistance as a circuit element. Resistors act to reduce current flow, and, at the same time, act to lower voltage levels within circuits. - Wikipedia
GateName_1: G$1; DeviceName: -0603-0.1%-5PPM; DeviceSetName: 1620OHM; PROD_ID: RES-15120; SymbolName_1: RESISTOR; LibraryName: SparkFun-Resistors; Package: 0603
footprint 0603
pins: 1, 2

## FLEX_SENSOR-2.2"
designator R?, comment Spectra Symbol Flex Sensor (2.2", 4.5") - A flexible resistor that changes its resistance as it bends.    A footpring for the 2.2" and 4.5" flex sensors that allows them to be attached to PCB for more durabiility   SparkFun Products: 4.5" Flex Sensor  2.2" Flex Sensor
GateName_1: G$1; DeviceName: -2.2"; DeviceSetName: FLEX_SENSOR; PROD_ID: COMP-10225; SymbolName_1: RESISTOR; LibraryName: SparkFun-Resistors; Package: FLEX_SENSOR
footprint FLEX_SENSOR
pins: P$1 1, P$2 2

## FLEX_SENSOR-4.5"
designator R?, comment Spectra Symbol Flex Sensor (2.2", 4.5") - A flexible resistor that changes its resistance as it bends.    A footpring for the 2.2" and 4.5" flex sensors that allows them to be attached to PCB for more durabiility   SparkFun Products: 4.5" Flex Sensor  2.2" Flex Sensor
GateName_1: G$1; DeviceName: -4.5"; DeviceSetName: FLEX_SENSOR; PROD_ID: COMP-13078; SymbolName_1: RESISTOR; LibraryName: SparkFun-Resistors; Package: FLEX_SENSOR
footprint FLEX_SENSOR
pins: P$1 1, P$2 2

## NTC-THERMISTOR-0603
designator R?, comment NTC Thermistor    An NTC thermistor's resistance decreases as temperature rises.   Applications:  Resistance Thermometer - temperature monitoring  Inrush current limiter  Heat source
GateName_1: G$1; SymbolName_1: NTC-THERMISTOR; DeviceName: -0603; PROD_ID: RES-13608; LibraryName: SparkFun-Resistors; DeviceSetName: NTC-THERMISTOR; Package: 0603
footprint 0603
pins: 1 (io), 2 (io)

## NTC-THERMISTOR-AXIAL-0.1
designator R?, comment NTC Thermistor    An NTC thermistor's resistance decreases as temperature rises.   Applications:  Resistance Thermometer - temperature monitoring  Inrush current limiter  Heat source
GateName_1: G$1; SymbolName_1: NTC-THERMISTOR; DeviceName: -AXIAL-0.1; SF_ID: SEN-00250; LibraryName: SparkFun-Resistors; DeviceSetName: NTC-THERMISTOR; Package: AXIAL-0.1
footprint AXIAL-0.1
pins: P$1 1 (io), P$2 2 (io)

## POTENTIOMETER-PTH-9MM-1/20W-20%
designator VR?, comment Potentiometer (Pot)    Three-terminal potentiometers, with an adjustable wiper and two adjustable resistors. A pot can be used to create a configurable voltage divider, or as a variable resistor. Variants  ALPS_POT and ALPS_POT_KIT - PTH, breadboard compatible, 9mm square pots  Rotary Potentiometer - Linear (10k ohm) (COM-09288)  The KIT variant exposes copper on only one side of the PTH pad, so the part can only be assembled on one side of the PCB. Useful for beginner soldering kits.
GateName_1: G$1; DeviceName: -PTH-9MM-1/20W-20%; PROD_ID: RES-09177; SymbolName_1: POTENTIOMETER; LibraryName: SparkFun-Resistors; DeviceSetName: POTENTIOMETER; Package: POT-PTH-ALPS; SF_SKU: COM-09288
footprint POT-PTH-ALPS
pins: P$1 E, P$2 S, P$3 A

## POTENTIOMETER-PTH-9MM-1/20W-20%-KIT
designator VR?, comment Potentiometer (Pot)    Three-terminal potentiometers, with an adjustable wiper and two adjustable resistors. A pot can be used to create a configurable voltage divider, or as a variable resistor. Variants  ALPS_POT and ALPS_POT_KIT - PTH, breadboard compatible, 9mm square pots  Rotary Potentiometer - Linear (10k ohm) (COM-09288)  The KIT variant exposes copper on only one side of the PTH pad, so the part can only be assembled on one side of the PCB. Useful for beginner soldering kits.
GateName_1: G$1; DeviceName: -PTH-9MM-1/20W-20%-KIT; PROD_ID: RES-09177; SymbolName_1: POTENTIOMETER; LibraryName: SparkFun-Resistors; DeviceSetName: POTENTIOMETER; Package: POT-PTH-ALPS-KIT; SF_SKU: COM-09288
footprint POT-PTH-ALPS-KIT
pins: P$1 E, P$2 S, P$3 A

## POTENTIOMETER_DUAL-PTH-12MM-1/20W-20%
designator VR?, comment Potentiometer (Pot) Dual-Gang    Three-terminal potentiometers, with an adjustable wiper and two adjustable resistors. A pot can be used to create a configurable voltage divider, or as a variable resistor.   This is a dua-gang pot - it includes two separate circuits, both controlled by one wiper. Variants  PTH-12MM and PTH-12MM-KIT - 12mm Square, PTH Vertical Pots  Used on the SparkFun SparkPunk Sound Kit (filter control)  The KIT variant exposes copper on only one side of the PTH pad, so the part can only be assembled on one side of the PCB. Useful for beginner soldering kits.
GateName_1: G$1; GateName_2: G$2; DeviceName: -PTH-12MM-1/20W-20%; DeviceSetName: POTENTIOMETER_DUAL; PROD_ID: RES-11897; SymbolName_1: POTENTIOMETER; SymbolName_2: POTENTIOMETER; LibraryName: SparkFun-Resistors; Package: POT-DUAL-PTH-PANASONIC-VERT
footprint POT-DUAL-PTH-PANASONIC-VERT
part A pins: A1 E, A2 S, A3 A
part B pins: B1 E, B2 S, B3 A

## POTENTIOMETER_DUAL-PTH-12MM-1/20W-20%-KIT
designator VR?, comment Potentiometer (Pot) Dual-Gang    Three-terminal potentiometers, with an adjustable wiper and two adjustable resistors. A pot can be used to create a configurable voltage divider, or as a variable resistor.   This is a dua-gang pot - it includes two separate circuits, both controlled by one wiper. Variants  PTH-12MM and PTH-12MM-KIT - 12mm Square, PTH Vertical Pots  Used on the SparkFun SparkPunk Sound Kit (filter control)  The KIT variant exposes copper on only one side of the PTH pad, so the part can only be assembled on one side of the PCB. Useful for beginner soldering kits.
GateName_1: G$1; GateName_2: G$2; DeviceName: -PTH-12MM-1/20W-20%-KIT; DeviceSetName: POTENTIOMETER_DUAL; PROD_ID: RES-11897; SymbolName_1: POTENTIOMETER; SymbolName_2: POTENTIOMETER; LibraryName: SparkFun-Resistors; Package: POT-DUAL-PTH-PANASONIC-VERT-KIT
footprint POT-DUAL-PTH-PANASONIC-VERT-KIT
part A pins: A1 E, A2 S, A3 A
part B pins: B1 E, B2 S, B3 A